# Altium schematic symbol library 5HeaderPin.SchLib: 1 symbol
Pins are listed as number, name and electrical type; pins without a type are passive.

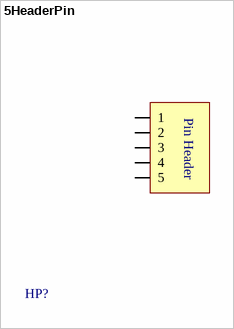
[diagram p0: symbol 5HeaderPin]

## 5HeaderPin
designator HP?  (value not drawn)
footprint 5HeaderPin
pins: 1, 2, 3, 4, 5
text: Pin Header